# EAGLE library part SI7020-A20-GM (library Si7020-A20-GM)
Si7020G Dig RH Temp Sensor Silicon Labs Si7020-A20-GM Temperature & Humidity Sensor, -40 +85 C, 6-Pin DFN <https://componentsearchengine.com/Images/1/SI7020-A20-GM.jpg> Source: Datasheet <https://componentsearchengine.com/Datasheets/1/SI7020-A20-GM.pdf>
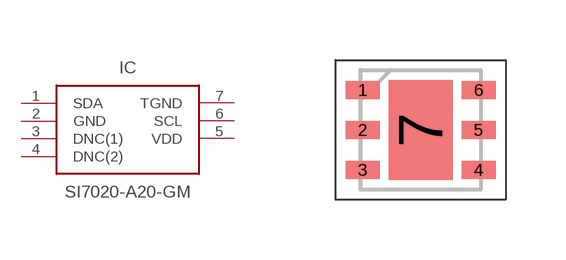
[diagram p0: symbol with the pads of SON100P300X300X80-7N; footprint SON100P300X300X80-7N]

Designator prefix IC

## SI7020-A20-GM (Description: Si7020G Dig RH Temp Sensor Silicon Labs Si7020-A20-GM Temperature & Humidity Sensor, -40 +85 C, 6-Pin DFN; Height: 0.8mm; Manufacturer_Name: Silicon Labs; Manufacturer_Part_Number: Si7020-A20-GM; RS_Part_Number: 8652309; Supplier_Name: RS)  [SON100P300X300X80-7N]
1  SDA
2  GND  pwr
3  DNC(1)  pas
4  DNC(2)  pas
5  VDD  pwr
6  SCL
7  TGND  pwr

## Footprint SON100P300X300X80-7N (pad centres in mm)
3x3 6-pin DFN_1
smd 0.85 x 0.45: 1 -1.45,1; 2 -1.45,0; 3 -1.45,-1; 4 1.45,-1; 5 1.45,0; 6 1.45,1
smd 1.6 x 2.5: 7 0,0